# Altium schematic symbol library Cap_Vishay_561R10TCCV22_eec.SchLib: 1 symbol
Pins are listed as number, name and electrical type; pins without a type are passive.

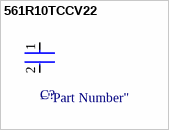
[diagram p0: symbol 561R10TCCV22]

## 561R10TCCV22
designator C?  (value not drawn)
pins: 1, 2